# EAGLE library part 74ACT14SC (library Fairchild_By_element14_Batch_1)
Hex Inverting with Schmitt Trigger
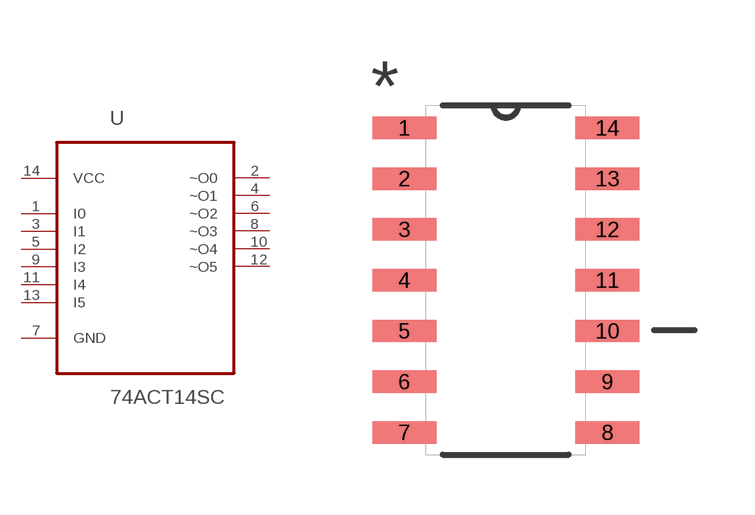
[diagram p40: symbol with the pads of SOIC127P600X175-14N; footprint SOIC127P600X175-14N]

Designator prefix U

## 74ACT14SC (MPN: 74ACT14SC; OC_FARNELL: 3734936; OC_NEWARK: 78K6179; PACKAGE: SOIC-14; SUPPLIER: Fairchild)  [SOIC127P600X175-14N]
1  I0  in
2  ~O0  out
3  I1  in
4  ~O1  out
5  I2  in
6  ~O2  out
7  GND  pas
8  ~O3  out
9  I3  in
10  ~O4  out
11  I4  in
12  ~O5  out
13  I5  in
14  VCC  pwr

## Footprint SOIC127P600X175-14N (pad centres in mm)
smd 1.6 x 0.559: 1 -2.54,3.81; 2 -2.54,2.54; 3 -2.54,1.27; 4 -2.54,0; 5 -2.54,-1.27; 6 -2.54,-2.54; 7 -2.54,-3.81; 8 2.54,-3.81; 9 2.54,-2.54; 10 2.54,-1.27; 11 2.54,0; 12 2.54,1.27; 13 2.54,2.54; 14 2.54,3.81